# Altium schematic symbol library Pd's Sch Lib.SchLib: 116 symbols (part 1 of 2)
Pins are listed as number, name and electrical type; pins without a type are passive.

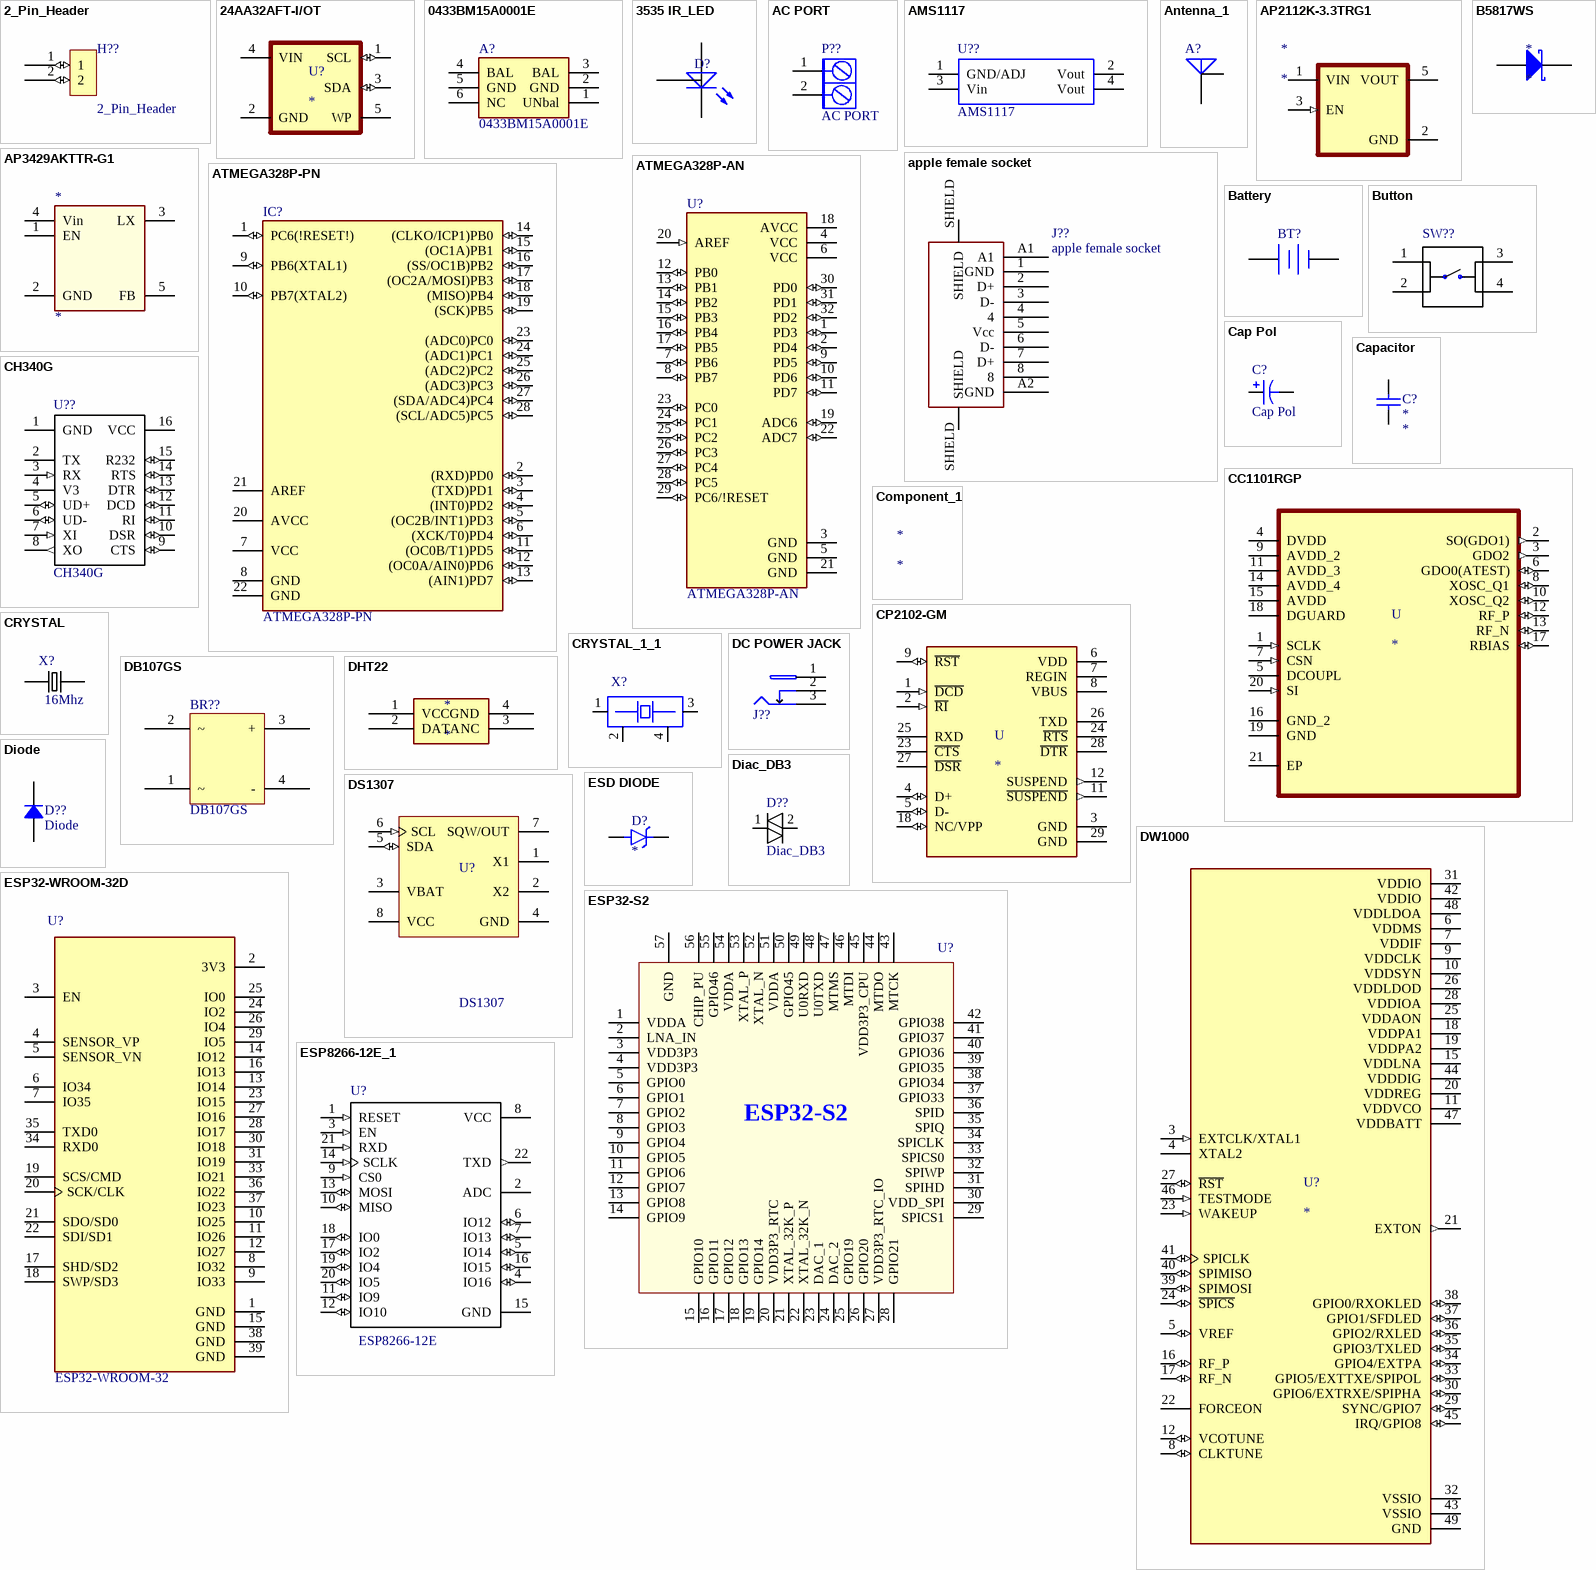
[diagram p0: symbols 2_Pin_Header to ESP8266-12E_1]

## 2_Pin_Header
designator H??
footprint 2 pin Header 2.54mm
pins: 1 (io), 2 (io)

## 24AA32AFT-I/OT
designator U?
pins: 1 SCL (io), 2 GND (power), 3 SDA (io), 4 VIN (power), 5 WP (oe)

## 0433BM15A0001E
designator A?
BALUN, 433MHZ, IMPEDANCE MATCHED; Balun Mounting:SMD; Frequency Min:430MHz; Frequency Max:435MHz; Impedance - Unbalanced / Balanced:-; Insertion Loss:1.9dB; Balun Case Style:0805; Phase Difference:-; Product Range:-; Manufacturer 1: Johanson; Bandwidth: 5MHz; Impedance: 50R; Insertion Loss: 1.9dB; Return Loss: 9.5dB; Value: 435MHz; Supplier 1: Mouser; Supplier Part Number 1: 609-0433BM15A0001E; Manufacturer Part Number: 0433BM15A0001E; RoHS: Yes; Category: Uncategorized; Stock 1: 2504; Pricing 1: 1=0.89000, 50=0.72700, 100=0.59400, 500=0.56400, 1000=0.50400, 4000=0.37000 (USD); Mount: Surface Mount; Package: SMD; Case Code (Metric): 2012; Case Code (Imperial): 0805; Min Operating Temperature: -40°C; Max Operating Temperature: 85°C; Package Quantity: 1; Frequency: 433MHz; Packaging: Tape and Reel; Termination: SMD/SMT; Composition: Ceramic; Length: 0.079inch; Height: 0.031inch; Width: 0.049inch; REACH SVHC: Unknown; Lead Free: Lead Free; ComponentLink1URL: https://datasheet.ciiva.com/15275/htmls322-15275600.pdf?src-supplier=Arrow+Europe; ComponentLink1Description: https://datasheet.ciiva.com/15275/htmls322-15275600.pdf?src-supplier=Arrow+Europe; ComponentLink2URL: https://datasheet.ciiva.com/24048/0433bm15a0001-253534-24048238.pdf?src-supplier=Mouser; ComponentLink2Description: https://datasheet.ciiva.com/24048/0433bm15a0001-253534-24048238.pdf?src-supplier=Mouser; ComponentLink3URL: https://datasheet.ciiva.com/1023/swra250a-1023732.pdf?src-supplier=Digi-Key; ComponentLink3Description: https://datasheet.ciiva.com/1023/swra250a-1023732.pdf?src-supplier=Digi-Key; ComponentLink4URL: https://datasheet.ciiva.com/6851/1643108-6851623.pdf?src-supplier=Newark; ComponentLink4Description: https://datasheet.ciiva.com/6851/1643108-6851623.pdf?src-supplier=Newark; ComponentLink5URL: https://datasheet.ciiva.com/7662/1643108-7662567.pdf?src-supplier=Element14; ComponentLink5Description: https://datasheet.ciiva.com/7662/1643108-7662567.pdf?src-supplier=Element14
footprint 0433BM15A0001E (RF Balun Wmic)
pins: 1 UNbal, 2 GND, 3 BAL, 4 BAL, 5 GND, 6 NC

## 3535 IR_LED
designator D?
pins: 0, A, K

## AC PORT
designator P??
Header, 2-Pin; Manufacturer Part Number: Screw Terminal; Value: 2 PIN; Case/Package: 5mm PITCH TH
signal-integrity model Connector
pins: 1 L, 2 N

## AMS1117
designator U??
footprint SOT223_ AMS1117 (SOT223)
pins: 1 GND/ADJ, 2 Vout, 3 Vin, 4 Vout

## Antenna_1
designator A?
PCB Antenna; Published: 24-Mar-1999; LatestRevisionDate: 17-Jul-2002; LatestRevisionNote: Re-released for DXP Platform.; PackageReference: PIN1; Publisher: Altium Limited
footprint PIN1 (Generic Antenna; 1 Lead)
pins: 1 GND, 2 ANT

## AP2112K-3.3TRG1
designator *
IC REG LINEAR 3.3V 600MA SOT25; Manufacturer 1: Diodes; Manufacturer Part Number 1: AP2112K-3.3TRG1; Number of Regulators: 1; Quiescent Current: 55uA; Polarity: Positive; Max Input Voltage: 6V; Min Input Voltage: 2.5V; Accuracy: 1.5%; Dropout Voltage: 250mV; Output Type: Fixed; Supplier 1: Digi-Key; RoHS: Yes; Category: Voltage Regulators - Linear; Stock 1: 65104; Pricing 1: 1=0.47000, 10=0.35500, 25=0.32000, 100=0.17450, 250=0.16872, 500=0.15126, 1000=0.11636 (USD); Mount: Surface Mount; Case/Package: SOT-23-5; Number of Pins: 5; Min Operating Temperature: -40°C; Max Operating Temperature: 85°C; Output Current: 600mA; Max Output Current: 600mA; Output Voltage: 3.3V; Number of Outputs: 1; Package Quantity: 1; Packaging: Tape and Reel; Length: 3.1mm; Height: 1.3mm; Width: 1.7mm; Lead Free: Lead Free; ComponentLink1URL: https://datasheet.ciiva.com/29569/ap2112-29569919.pdf?src-supplier=Digi-Key; ComponentLink1Description: https://datasheet.ciiva.com/29569/ap2112-29569919.pdf?src-supplier=Digi-Key; ComponentLink2URL: https://datasheet.ciiva.com/30016/ap2112-30016792.pdf?src-supplier=Avnet; ComponentLink2Description: https://datasheet.ciiva.com/30016/ap2112-30016792.pdf?src-supplier=Avnet; ComponentLink3URL: https://datasheet.ciiva.com/29569/ap2112-29569917.pdf?src-supplier=Digi-Key; ComponentLink3Description: https://datasheet.ciiva.com/29569/ap2112-29569917.pdf?src-supplier=Digi-Key; ComponentLink4URL: https://datasheet.ciiva.com/29569/ap2112-29569918.pdf?src-supplier=Digi-Key; ComponentLink4Description: https://datasheet.ciiva.com/29569/ap2112-29569918.pdf?src-supplier=Digi-Key
pins: 1 VIN (power), 2 GND (power), 3 EN (in), 5 VOUT (power)

## AP3429AKTTR-G1
designator *
IC REG BUCK ADJ 2A SYNC TSOT25; Manufacturer: Diodes; Manufacturer Part Number: AP3429AKTTR-G1; Number of Outputs: 1; Min Input Voltage: 2.7V; Max Input Voltage: 5.5V; Min Output Voltage: 600mV; Switching Frequency: 1MHz; Synchronous Rectifier: Yes; Output Type: Adjustable; Output Configuration: Positive; Supplier 1: Newark; RoHS: Yes; Category: Voltage Regulators - Switching; Pricing 1: 5=0.53400, 10=0.39800, 25=0.33700, 50=0.27600, 100=0.21500 (USD); Mount: Surface Mount; Case/Package: SOT-23-5; Min Operating Temperature: -40°C; Max Operating Temperature: 85°C; Packaging: Tape and Reel; Max Output Voltage: 5.5V; Output Current: 2A; RoHS Compliant: Yes; ComponentLink1URL: https://www.diodes.com/assets/Datasheets/AP3429.pdf?src-supplier=Digi-Key; ComponentLink1Description: https://www.diodes.com/assets/Datasheets/AP3429.pdf?src-supplier=Digi-Key; Supplier Part Number 1: 76AH4722
pins: 1 EN (power), 2 GND, 3 LX, 4 Vin (power), 5 FB (power)

## apple female socket
designator J??
footprint Apple Female
pins: 1 GND, 2 D+, 3 D-, 4, 5 Vcc, 6 D-, 7 D+, 8, A1, A2 GND, SHIELD, SHIELD

## ATMEGA328P-AN
designator U?
AVR AVRÂ® ATmega Microcontroller IC 8-Bit 20MHz 32KB _16K x 16_ FLASH 32-TQFP _7x7_; MF: Microchip; SnapEDA_Link: https://www.snapeda.com/parts/ATMEGA328P-AN/Microchip/view-part/1227245/?ref=snap; Value: *; MP: ATMEGA328P-AN; Package: TQFP-32 Microchip; Price: None; Availability: Unavailable
footprint QFP80P900X900X120-32N
pins: 1 PD3 (io), 2 PD4 (io), 3 GND (power), 4 VCC (power), 5 GND (power), 6 VCC (power), 7 PB6 (io), 8 PB7 (io), 9 PD5 (io), 10 PD6 (io), 11 PD7 (io), 12 PB0 (io), 13 PB1 (io), 14 PB2 (io), 15 PB3 (io), 16 PB4 (io), 17 PB5 (io), 18 AVCC (power), 19 ADC6 (io), 20 AREF (in), 21 GND (power), 22 ADC7 (io), 23 PC0 (io), 24 PC1 (io), 25 PC2 (io), 26 PC3 (io), 27 PC4 (io), 28 PC5 (io), 29 PC6/!RESET (io), 30 PD0 (io), 31 PD1 (io), 32 PD2 (io)

## ATMEGA328P-PN
designator IC?
AVR AVRÂ® ATmega Microcontroller IC 8-Bit 20MHz 32KB _16K x 16_ FLASH 28-PDIP; MF: Microchip; Availability: Unavailable; SnapEDA_Link: https://www.snapeda.com/parts/ATMEGA328P-PN/Microchip/view-part/396640/?ref=snap; Price: None; Package: PDIP-28 Atmel; MP: ATMEGA328P-PN; Value: *
footprint DIL28
pins: 1 PC6(!RESET!) (io), 2 (RXD)PD0 (io), 3 (TXD)PD1 (io), 4 (INT0)PD2 (io), 5 (OC2B/INT1)PD3 (io), 6 (XCK/T0)PD4 (io), 7 VCC (power), 8 GND (power), 9 PB6(XTAL1) (io), 10 PB7(XTAL2) (io), 11 (OC0B/T1)PD5 (io), 12 (OC0A/AIN0)PD6 (io), 13 (AIN1)PD7 (io), 14 (CLKO/ICP1)PB0 (io), 15 (OC1A)PB1 (io), 16 (SS/OC1B)PB2 (io), 17 (OC2A/MOSI)PB3 (io), 18 (MISO)PB4 (io), 19 (SCK)PB5 (io), 20 AVCC (power), 21 AREF, 22 GND (power), 23 (ADC0)PC0 (io), 24 (ADC1)PC1 (io), 25 (ADC2)PC2 (io), 26 (ADC3)PC3 (io), 27 (SDA/ADC4)PC4 (io), 28 (SCL/ADC5)PC5 (io)

## B5817WS
designator *
20V 1A 450mV @ 1A SOD-323 Schottky Barrier Diodes (SBD) RoHS; Manufacturer Part Number: B5817WS; Case/Package: SOD-323; ComponentLink1URL: https://datasheet.ciiva.com/912/b5817ws-b5819wssod-323-912713.pdf?src-supplier=Digi-Key; ComponentLink1Description: https://datasheet.ciiva.com/912/b5817ws-b5819wssod-323-912713.pdf?src-supplier=Digi-Key; ComponentLink2URL: https://datasheet.ciiva.com/7624/b5817ws-b5819wssod-323-7624698.pdf?src-supplier=Element14; ComponentLink2Description: https://datasheet.ciiva.com/7624/b5817ws-b5819wssod-323-7624698.pdf?src-supplier=Element14; ComponentLink3URL: https://datasheet.ciiva.com/912/b5817ws-b5819wssod-323-912711.pdf?src-supplier=Digi-Key; ComponentLink3Description: https://datasheet.ciiva.com/912/b5817ws-b5819wssod-323-912711.pdf?src-supplier=Digi-Key; ComponentLink4URL: https://datasheet.ciiva.com/912/b5817ws-b5819wssod-323-912712.pdf?src-supplier=Digi-Key; ComponentLink4Description: https://datasheet.ciiva.com/912/b5817ws-b5819wssod-323-912712.pdf?src-supplier=Digi-Key; ComponentLink5URL: https://datasheet.ciiva.com/17182/b5817ws-b5819wssod-323-17182367.pdf?src-supplier=Future+Electronics; ComponentLink5Description: https://datasheet.ciiva.com/17182/b5817ws-b5819wssod-323-17182367.pdf?src-supplier=Future+Electronics
footprint SOD-323
pins: A, K

## Battery
designator BT?
Multicell Battery; Published: 24-Mar-1999; LatestRevisionDate: 17-Jul-2002; LatestRevisionNote: Re-released for DXP Platform.; PackageReference: BAT-2; Publisher: Altium Limited; PackageDescription: Battery; 2 Leads
footprint BAT-2 (Battery; 2 Leads)
pins: 1 +, 2 -

## Button
designator SW??, comment Switch  (value not drawn)
pins: 1, 2, 3, 4

## Cap Pol
designator C?
Case/Package: *; Manufacturer Part Number: *; Value: *
simulation model CAP (Capacitor)
signal-integrity model Cap Pol
pins: 1, 2
1 alternate drawing of the same symbol

## Capacitor
designator C?
Manufacturer Part Number: *; Case/Package: *; Value: *
pins: 1, 2

## CC1101RGP
designator U
IC RF TxRx Only General ISM < 1GHz 300MHz ~ 348MHz, 387MHz ~ 464MHz, 779MHz ~ 928MHz 20-VFQFN Exposed Pad; MP: CC1101RGP; MF: Texas Instruments; Price: None; Package: QFN-20 Texas Instruments; Value: *; Availability: Unavailable; SnapEDA_Link: https://www.snapeda.com/parts/CC1101RGP/Texas%20Instruments/view-part/53202/?ref=snap
footprint QFN50P400X400X90-21N
pins: 1 SCLK (in), 2 SO(GDO1) (out), 3 GDO2 (out), 4 DVDD (power), 5 DCOUPL (power), 6 GDO0(ATEST) (io), 7 CSN (in), 8 XOSC_Q1 (io), 9 AVDD_2 (power), 10 XOSC_Q2 (io), 11 AVDD_3 (power), 12 RF_P (io), 13 RF_N (io), 14 AVDD_4 (power), 15 AVDD (power), 16 GND_2, 17 RBIAS (io), 18 DGUARD (power), 19 GND, 20 SI (in), 21 EP

## CH340G
designator U??
footprint SO-16
pins: 1 GND (power), 2 TX, 3 RX (in), 4 V3 (power), 5 UD+ (io), 6 UD- (io), 7 XI (in), 8 XO (out), 9 CTS (io), 10 DSR (io), 11 RI (io), 12 DCD (io), 13 DTR (io), 14 RTS (io), 15 R232 (io), 16 VCC (power)

## Component_1
designator *

## CP2102-GM
designator U
CP2102-GM; Manufacturer 1: Silicon Labs; Nominal Supply Current: 26mA; Number of Channels: 1; Data Rate: 1Mbps; Max Supply Voltage: 3.6V; Min Supply Voltage: 3V; Operating Supply Current: 20mA; Operating Supply Voltage: 3.3V; USB Standard: USB 2.0; Supplier 1: Digi-Key; Manufacturer Part Number 1: CP2102-GM; RoHS: Yes; Category: Interface ICs; Stock 1: 9063; Pricing 1: 1=3.17000, 25=3.05560, 100=2.95000, 1000=2.95000 (USD); Case/Package: QFN; Number of Pins: 28; Weight: 0.00239oz; Contact Plating: Tin; Min Operating Temperature: -40°C; Max Operating Temperature: 85°C; Packaging: Rail/Tube; Number of Ports: 1; Number of Transceivers: 1; Length: 5mm; Height: 0.88mm; Width: 5mm; Radiation Hardening: No; Lead Free: Lead Free; REACH SVHC: Unknown; ComponentLink1URL: https://datasheet.ciiva.com/4783/cp2102-42497-4783232.pdf?src-supplier=Mouser; ComponentLink1Description: https://datasheet.ciiva.com/4783/cp2102-42497-4783232.pdf?src-supplier=Mouser; ComponentLink2URL: https://datasheet.ciiva.com/1157/70863-1157174.pdf?src-supplier=Newark; ComponentLink2Description: https://datasheet.ciiva.com/1157/70863-1157174.pdf?src-supplier=Newark; ComponentLink3URL: https://datasheet.ciiva.com/1148/1694195-1148857.pdf?src-supplier=Element14; ComponentLink3Description: https://datasheet.ciiva.com/1148/1694195-1148857.pdf?src-supplier=Element14; ComponentLink4URL: https://datasheet.ciiva.com/16995/0900766b8065a805-16995773.pdf?src-supplier=Allied+Electronics; ComponentLink4Description: https://datasheet.ciiva.com/16995/0900766b8065a805-16995773.pdf?src-supplier=Allied+Electronics; ComponentLink5URL: https://datasheet.ciiva.com/15134/getdatasheetpartid-257645-15134607.pdf?src-supplier=Verical; ComponentLink5Description: https://datasheet.ciiva.com/15134/getdatasheetpartid-257645-15134607.pdf?src-supplier=Verical; ComponentLink6URL: https://datasheet.ciiva.com/6636/cp2102-9-6636573.pdf?src-supplier=Digi-Key; ComponentLink6Description: https://datasheet.ciiva.com/6636/cp2102-9-6636573.pdf?src-supplier=Digi-Key; Supplier Part Number 1: 336-1160-5-ND
footprint QFN50P500X500X100-29N
pins: 1 ~{DCD} (in), 2 ~{RI} (in), 3 GND (power), 4 D+ (io), 5 D- (io), 6 VDD (power), 7 REGIN (power), 8 VBUS (power), 9 ~{RST} (io), 11 ~{SUSPEND} (out), 12 SUSPEND (out), 18 NC/VPP (io), 23 ~{CTS}, 24 ~{RTS}, 25 RXD, 26 TXD, 27 ~{DSR}, 28 ~{DTR}, 29 GND (power)

## CRYSTAL
designator X?, comment 16Mhz
pins: 1, 2

## CRYSTAL_1_1
designator X?, comment CRYSTAL_1  (value not drawn)
pins: 1, 2, 3, 4

## DB107GS
designator BR??
footprint DB-S  DB107
pins: 1 ~, 2 ~, 3 +, 4 -

## DC POWER JACK
designator J??  (value not drawn)
CONN PWR JACK 2.1X5.5MM SOLDER; Manufacturer: Wurth Electronics; Manufacturer Part Number: 694106301002; Gender: Male; Shielding: Unshielded; Current Rating: 5A; Voltage Rating: 24V; Insulation Resistance: 100MR; Voltage Rating (DC): 20V; Connector Type: Jack Power; Supplier 1: Digi-Key; Stock 1: 3331; Pricing 1: 1=0.96, 10=0.908, 50=0.811, 100=0.746, 500=0.648, 1000=0.551 (USD); Mount: Through Hole; Contact Plating: Tin; Color: Black; Contact Material: Copper Alloy; Housing Material: Polyamide; Min Operating Temperature: -40°C; Max Operating Temperature: 85°C; Packaging: Bulk; Termination: Through Hole; Contact Gender: Female; Package Quantity: 500; REACH SVHC: Unknown; Flammability Rating: UL94 V-0; ComponentLink1URL: https://katalog.we-online.de/em/datasheet/6941xx301002.pdf?src-supplier=Digi-Key; ComponentLink1Description: https://katalog.we-online.de/em/datasheet/6941xx301002.pdf?src-supplier=Digi-Key; ComponentLink2URL: http://www.farnell.com/cad/2130967.pdf?src-supplier=Element14; ComponentLink2Description: http://www.farnell.com/cad/2130967.pdf?src-supplier=Element14; ComponentLink3URL: http://www.mouser.com/ds/2/445/6941xx301002-469315.pdf?src-supplier=Mouser; ComponentLink3Description: http://www.mouser.com/ds/2/445/6941xx301002-469315.pdf?src-supplier=Mouser; Supplier Part Number 1: 732-5930-ND
footprint DC PWR JACK (2.5 mm DC female jack)
pins: 1, 2, 3

## DHT22
designator *
pins: 1 VCC, 2 DATA, 3 NC, 4 GND

## Diac_DB3
designator D??
pins: 1, 2

## Diode
designator D??
pins: A, K

## DS1307
designator U?
64 x 8, Serial, I2C Real-Time Clock, 5.0V, 8-Pin PDIP, 0 to 70 degC; Part No: DS1307Z+; Company Name: VEGG; Engineer: Nirmal; ComponentLink1Description: Datasheet; ComponentLink1URL: https://datasheets.maximintegrated.com/en/ds/DS1307.pdf; Package Type: SO8-150
footprint P8-2 (DIP, 8-Leads, Row Spacing 7.62mm, Pitch 2.54mm, Body 9.4x7mm)
footprint W8+2_L
footprint SO8-150
pins: 1 X1, 2 X2, 3 VBAT (power), 4 GND (power), 5 SDA (io), 6 SCL (in), 7 SQW/OUT (oc), 8 VCC (power)

## DW1000
designator U?
IC RF TxRx Only 802.15.4 IR-UWB 3.5GHz ~ 6.5GHz 48-VFQFN Exposed Pad; Manufacturer 1: DecaWave; Manufacturer Part Number: DW1000; MP: DW1000-I; MF: Decawave Limited; Description 1: IC RF TXRX 802.15.4 48-QFN; Category 1: RF Receivers, Transceivers; Data Rate: 6.8Mbps; Current - Receiving: 64mA; Current - Transmitting: 31mA; Interface: SPI; Availability: Unavailable; Package: QFN-48 Decawave; SnapEDA_Link: https://www.snapeda.com/parts/DW1000-I/Decawave%20Limited/view-part/553070/?ref=snap; Price: None; Value: *; Supplier 1: Digi-Key; RoHS 1: Yes; Stock 1: 67437; Pricing 1: 1=10.92000, 10=10.01000, 25=9.10000, 100=8.19000, 250=7.50752, 500=6.82500, 1000=6.14250 (USD); Case/Package: QFN-48 6 x 6mm; Min Operating Temperature: -40°C; Max Operating Temperature: 85°C; Packaging: Tape and Reel; Frequency: 6.5GHz; Package Quantity: 4000; ComponentLink1URL: https://datasheet.ciiva.com/29856/dw1000-product-brief-29856444.pdf?src-supplier=Digi-Key; ComponentLink1Description: https://datasheet.ciiva.com/29856/dw1000-product-brief-29856444.pdf?src-supplier=Digi-Key; ComponentLink2URL: https://datasheet.ciiva.com/29856/dw1000-product-brief-29856445.pdf?src-supplier=Digi-Key; ComponentLink2Description: https://datasheet.ciiva.com/29856/dw1000-product-brief-29856445.pdf?src-supplier=Digi-Key; ComponentLink3URL: https://datasheet.ciiva.com/29856/dw1000-product-brief-29856446.pdf?src-supplier=Digi-Key; ComponentLink3Description: https://datasheet.ciiva.com/29856/dw1000-product-brief-29856446.pdf?src-supplier=Digi-Key; Supplier Part Number 1: 1479-1001-1-ND
footprint QFN40P600X600X90-49N
pins: 3 EXTCLK/XTAL1 (in), 4 XTAL2, 5 VREF (io), 6 VDDMS (power), 7 VDDIF (power), 8 CLKTUNE (io), 9 VDDCLK (power), 10 VDDSYN (power), 11 VDDVCO (power), 12 VCOTUNE (io), 15 VDDLNA (power), 16 RF_P (io), 17 RF_N (io), 18 VDDPA1 (power), 19 VDDPA2 (power), 20 VDDREG (power), 21 EXTON (out), 22 FORCEON (power), 23 WAKEUP (in), 24 ~{SPICS} (io), 25 VDDAON (power), 26 VDDLDOD (power), 27 ~{RST} (io), 28 VDDIOA (power), 29 SYNC/GPIO7 (io), 30 GPIO6/EXTRXE/SPIPHA (io), 31 VDDIO (power), 32 VSSIO (power), 33 GPIO5/EXTTXE/SPIPOL (io), 34 GPIO4/EXTPA (io), 35 GPIO3/TXLED (io), 36 GPIO2/RXLED (io), 37 GPIO1/SFDLED (io), 38 GPIO0/RXOKLED (io), 39 SPIMOSI (io), 40 SPIMISO (io), 41 SPICLK (io), 42 VDDIO (power), 43 VSSIO (power), 44 VDDDIG (power), 45 IRQ/GPIO8 (io), 46 TESTMODE (in), 47 VDDBATT (power), 48 VDDLDOA (power), 49 GND (power)

## ESD DIODE
designator D?
pins: A, K

## ESP32-S2
designator U?  (value not drawn)
QFN-56 RF Transceiver ICs RoHS; Manufacturer 1: Espressif Systems; Manufacturer Part Number 1: ESP32-S2; Case/Package: QFN-56
footprint QFN56-7x7mm
pins: 1 VDDA, 2 LNA_IN, 3 VDD3P3, 4 VDD3P3, 5 GPIO0, 6 GPIO1, 7 GPIO2, 8 GPIO3, 9 GPIO4, 10 GPIO5, 11 GPIO6, 12 GPIO7, 13 GPIO8, 14 GPIO9, 15 GPIO10, 16 GPIO11, 17 GPIO12, 18 GPIO13, 19 GPIO14, 20 VDD3P3_RTC, 21 XTAL_32K_P, 22 XTAL_32K_N, 23 DAC_1, 24 DAC_2, 25 GPIO19, 26 GPIO20, 27 VDD3P3_RTC_IO, 28 GPIO21, 29 SPICS1, 30 VDD_SPI, 31 SPIHD, 32 SPIWP, 33 SPICS0, 34 SPICLK, 35 SPIQ, 36 SPID, 37 GPIO33, 38 GPIO34, 39 GPIO35, 40 GPIO36, 41 GPIO37, 42 GPIO38, 43 MTCK, 44 MTDO, 45 VDD3P3_CPU, 46 MTDI, 47 MTMS, 48 U0TXD, 49 U0RXD, 50 GPIO45, 51 VDDA, 52 XTAL_N, 53 XTAL_P, 54 VDDA, 55 GPIO46, 56 CHIP_PU, 57 GND

## ESP32-WROOM-32D
designator U?  Manufacturer Part Number: ESP32-WROOM-32  (hidden comment: *)
SMD MODULE, ESP32-D0WDQ6, 32MBIT; Manufacturer 1: Espressif Systems; Frequency: 2.5GHz; Data Rate: 150Mbps; Sensitivity: -98dBm; Operating Supply Voltage: 3.6V; Supplier 1: Digi-Key; RoHS: No; Category: RF Receivers, Transceivers; Pricing 1: 1=3.80000 (USD); Mount: Surface Mount; Case/Package: SMD/SMT; Weight: 0.088185oz; Min Operating Temperature: -40°C; Max Operating Temperature: 85°C; Packaging: Cut Tape; Package Quantity: 550; ComponentLink1URL: https://datasheet.ciiva.com/70828/esp32-wroom-32-datasheet-en-70828769.pdf?src-supplier=Digi-Key; ComponentLink1Description: https://datasheet.ciiva.com/70828/esp32-wroom-32-datasheet-en-70828769.pdf?src-supplier=Digi-Key; ComponentLink2URL: https://datasheet.ciiva.com/69725/esp32-datasheet-en-69725253.pdf?src-supplier=Digi-Key; ComponentLink2Description: https://datasheet.ciiva.com/69725/esp32-datasheet-en-69725253.pdf?src-supplier=Digi-Key; Supplier Part Number 1: 1904-1010-1-ND
footprint ESP32-WROOM-3D
pins: 1 GND, 2 3V3, 3 EN, 4 SENSOR_VP, 5 SENSOR_VN, 6 IO34, 7 IO35, 8 IO32, 9 IO33, 10 IO25, 11 IO26, 12 IO27, 13 IO14, 14 IO12, 15 GND, 16 IO13, 17 SHD/SD2, 18 SWP/SD3, 19 SCS/CMD, 20 SCK/CLK, 21 SDO/SD0, 22 SDI/SD1, 23 IO15, 24 IO2, 25 IO0, 26 IO4, 27 IO16, 28 IO17, 29 IO5, 30 IO18, 31 IO19, 33 IO21, 34 RXD0, 35 TXD0, 36 IO22, 37 IO23, 38 GND, 39 GND

## ESP8266-12E_1
designator U?, comment ESP8266-12E
ESP-12E; Company Name: VEGG; Engineer: Nirmal; Package Type: SMT; ComponentLink1Description: Datasheet; ComponentLink1URL: https://www.espressif.com/sites/default/files/documentation/0a-esp8266ex_datasheet_en.pdf; Part No: ESP-12E
footprint ESP-12E
pins: 1 RESET (in), 2 ADC, 3 EN (in), 4 IO16 (io), 5 IO14 (io), 6 IO12 (io), 7 IO13 (io), 8 VCC (power), 9 CS0 (in), 10 MISO (io), 11 IO9 (io), 12 IO10 (io), 13 MOSI (io), 14 SCLK (in), 15 GND (power), 16 IO15 (io), 17 IO2 (io), 18 IO0 (io), 19 IO4 (io), 20 IO5 (io), 21 RXD (in), 22 TXD (out)

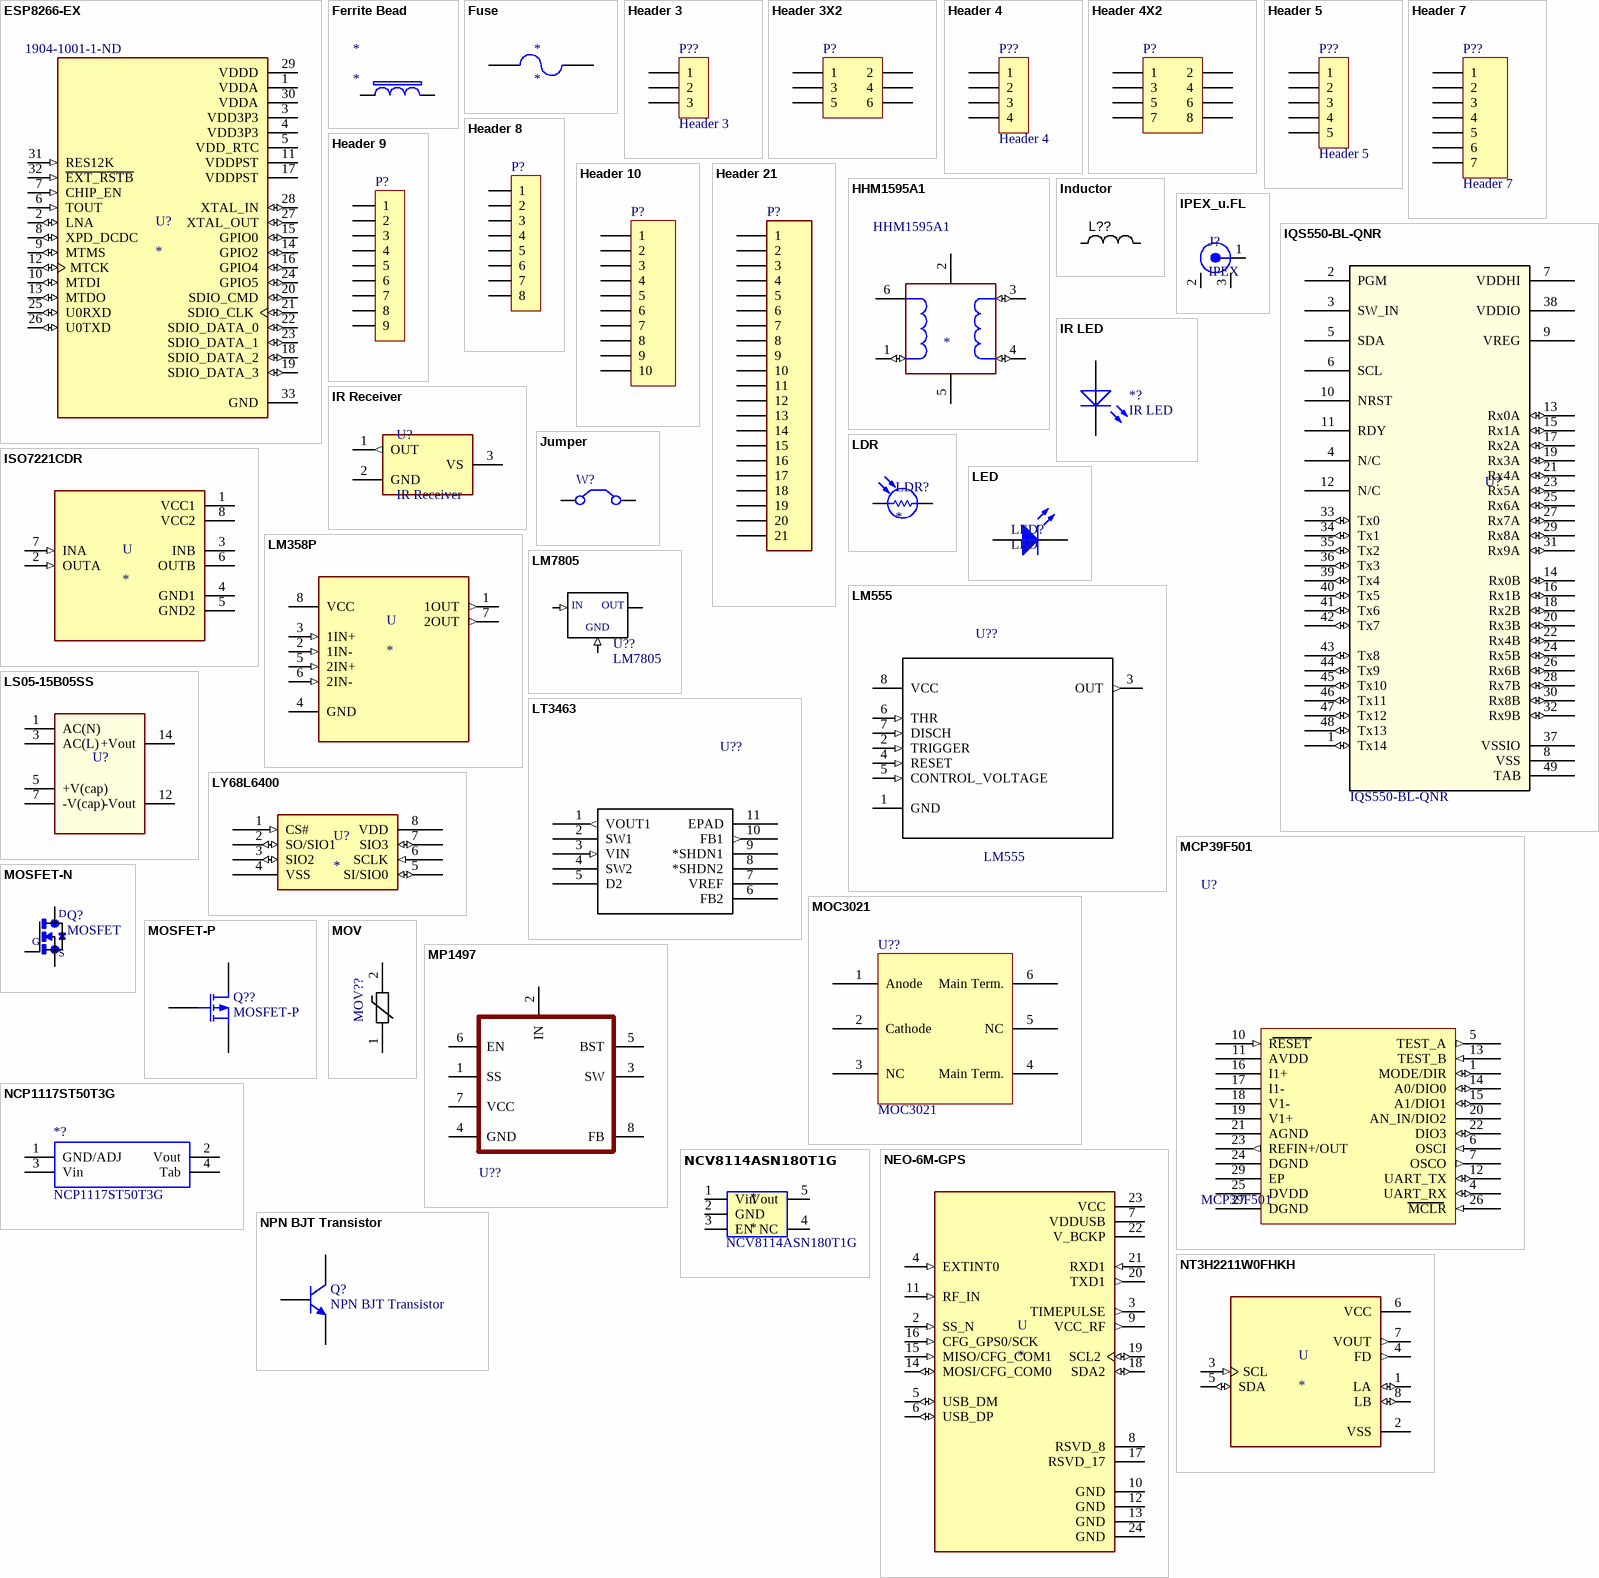
[diagram p1: symbols ESP8266-EX to NT3H2211W0FHKH]

## ESP8266-EX
designator U?  Supplier Part Number 1: 1904-1001-1-ND
IC ESP8266, SDIO 2.0, SPI, UART, QFN32, RF switch, balun, 24dBm PA, DCXO, PMU/Espresiff; Manufacturer 1: Espressif Systems; Manufacturer Part Number: ESP8266EX; Frequency: 2.4GHz; Data Rate: 54Mbps; Sensitivity: -91dBm; Current - Transmitting: 170mA; Interface: I2C,SPI,UART; Number of GPIO: 8; Current - Receiving: 56mA; Supplier 1: Digi-Key; RoHS: No; Category: RF Receivers, Transceivers; Stock 1: 3734; Pricing 1: 1=1.60000 (USD); Packaging: Cut Tape; ComponentLink1URL: https://datasheet.ciiva.com/70029/esp8266-quick-start-guide-en-70029745.pdf?src-supplier=Digi-Key; ComponentLink1Description: https://datasheet.ciiva.com/70029/esp8266-quick-start-guide-en-70029745.pdf?src-supplier=Digi-Key
footprint QFN-32 (esp8266-ex)
pins: 1 VDDA (power), 2 LNA (io), 3 VDD3P3 (power), 4 VDD3P3 (power), 5 VDD_RTC (power), 6 TOUT (in), 7 CHIP_EN (in), 8 XPD_DCDC (io), 9 MTMS (io), 10 MTDI (io), 11 VDDPST (power), 12 MTCK (io), 13 MTDO (io), 14 GPIO2 (io), 15 GPIO0 (io), 16 GPIO4 (io), 17 VDDPST (power), 18 SDIO_DATA_2 (io), 19 SDIO_DATA_3 (io), 20 SDIO_CMD (io), 21 SDIO_CLK (io), 22 SDIO_DATA_0 (io), 23 SDIO_DATA_1 (io), 24 GPIO5 (io), 25 U0RXD (io), 26 U0TXD (io), 27 XTAL_OUT (io), 28 XTAL_IN (io), 29 VDDD (power), 30 VDDA (power), 31 RES12K (in), 32 ~{EXT_RSTB} (in), 33 GND (power)

## Ferrite Bead
designator *
pins: 1, 2

## Fuse
designator *
pins: 1, 2

## Header 3
designator P??
Header, 3-Pin; LatestRevisionDate: 17-Jul-2002; LatestRevisionNote: Re-released for DXP Platform.; Publisher: Altium Limited
signal-integrity model Connector
footprint HDR1X3 2.54 (Connector; Header; 3 Position)
pins: 1, 2, 3

## Header 3X2
designator P?
Header, 3-Pin, Dual row; LatestRevisionDate: 17-Jul-2002; LatestRevisionNote: Re-released for DXP Platform.; Publisher: Altium Limited
footprint HDR2X3 (Connector; Header; 3x2 Position)
signal-integrity model Connector
footprint MHDR2X3 (Connector; Header; 3x2 Position)
pins: 1, 2, 3, 4, 5, 6

## Header 4
designator P??
Header, 4-Pin; LatestRevisionDate: 17-Jul-2002; LatestRevisionNote: Re-released for DXP Platform.; Publisher: Altium Limited
signal-integrity model Connector
pins: 1, 2, 3, 4

## Header 4X2
designator P?
Header, 4-Pin, Dual row; LatestRevisionDate: 17-Jul-2002; LatestRevisionNote: Re-released for DXP Platform.; Publisher: Altium Limited
footprint HDR2X4 (Connector; Header; 4x2 Position)
signal-integrity model Connector
pins: 1, 2, 3, 4, 5, 6, 7, 8

## Header 5
designator P??
Header, 5-Pin; LatestRevisionDate: 17-Jul-2002; LatestRevisionNote: Re-released for DXP Platform.; Publisher: Altium Limited
signal-integrity model Connector
pins: 1, 2, 3, 4, 5

## Header 7
designator P??
Header, 7-Pin; LatestRevisionDate: 17-Jul-2002; LatestRevisionNote: Re-released for DXP Platform.; Publisher: Altium Limited
signal-integrity model Connector
pins: 1, 2, 3, 4, 5, 6, 7

## Header 8
designator P?
Header, 8-Pin; LatestRevisionDate: 17-Jul-2002; LatestRevisionNote: Re-released for DXP Platform.; Publisher: Altium Limited
footprint HDR1X8 (Connector; Header; 8 Position)
signal-integrity model Connector
pins: 1, 2, 3, 4, 5, 6, 7, 8

## Header 9
designator P?
Header, 9-Pin; LatestRevisionDate: 17-Jul-2002; LatestRevisionNote: Re-released for DXP Platform.; Publisher: Altium Limited
footprint HDR1X9 (Connector; Header; 9 Position)
signal-integrity model Connector
pins: 1, 2, 3, 4, 5, 6, 7, 8, 9

## Header 10
designator P?
Header, 10-Pin; LatestRevisionDate: 17-Jul-2002; LatestRevisionNote: Re-released for DXP Platform.; Publisher: Altium Limited
footprint HDR1X10 (Connector; Header; 10 Position)
signal-integrity model Connector
pins: 1, 2, 3, 4, 5, 6, 7, 8, 9, 10

## Header 21
designator P?
Header, 22-Pin; LatestRevisionDate: 17-Jul-2002; LatestRevisionNote: Re-released for DXP Platform.; Publisher: Altium Limited
signal-integrity model Connector
footprint HDR1X21 (Connector; Header; 21 Position)
pins: 1, 2, 3, 4, 5, 6, 7, 8, 9, 10, 11, 12, 13, 14, 15, 16, 17, 18, 19, 20, 21

## HHM1595A1
designator BALUN  Manufacturer Part Number: HHM1595A1
50Ω 100Ω 3GHz ~ 8GHz 1.5dB 8dB 180±20 deg 0805 Balun RoHS; Manufacturer 1: TDK; Category 1: Uncategorized; Impedance: 100R; Supplier 1: LCSC; RoHS 1: Yes; Description 1: Balun; Stock 1: 40; Pricing 1: 1=0.22110, 10=0.16280, 30=0.15210, 100=0.14150, 500=0.13670, 1000=0.13440, 1=0.21290, 10=0.15680, 30=0.14650, 100=0.13620, 500=0.13170, 1000=0.12940, 1=1.09280, 10=0.80490, 30=0.75200, 100=0.69910, 500=0.67570, 1000=0.66410, 1=1.01380, 10=0.74670, 30=0.69770, 100=0.64860, 500=0.62690, 1000=0.61610, 1=0.13630, 10=0.10040, 30=0.09380, 100=0.08720, 500=0.08420, 1000=0.08280, 1=0.12470, 10=0.09190, 30=0.08580, 100=0.07980, 500=0.07710, 1000=0.07580, 1=1.25220, 10=0.92230, 30=0.86170, 100=0.80110, 500=0.77420, 1000=0.76090, 1=16.86940, 10=12.42490, 30=11.60870, 100=10.79270, 500=10.43070, 1000=10.25140, 1=0.66430, 10=0.48930, 30=0.45710, 100=0.42500, 500=0.41070, 1000=0.40370, 1=12.20920, 10=8.99250, 30=8.40180, 100=7.81120, 500=7.54920, 1000=7.41940, 1=1.41370, 10=1.04130, 30=0.97290, 100=0.90450, 500=0.87410, 1000=0.85910, 1=0.21920, 10=0.16150, 30=0.15090, 100=0.14030, 500=0.13560, 1000=0.13320, 1=0.16157, 10=0.11900, 30=0.11118, 100=0.10337, 500=0.09990, 1000=0.09818 (AUD); Mount: Surface Mount; Case/Package: 0805; Number of Pins: 6; Case Code (Metric): 2012; Case Code (Imperial): 0805; Min Operating Temperature: -40°C; Max Operating Temperature: 85°C; Package Quantity: 1; Packaging: Tape and Reel; Insertion Loss: 1.5dB; Termination: SMD/SMT; Radiation Hardening: No; ComponentLink1URL: https://datasheet.ciiva.com/30013/rf-balun-hhm1595a1-en-30013313.pdf?src-supplier=Avnet; ComponentLink1Description: https://datasheet.ciiva.com/30013/rf-balun-hhm1595a1-en-30013313.pdf?src-supplier=Avnet; ComponentLink2URL: https://datasheet.ciiva.com/4547/e751-multibalun-hhm18-20070-4547862.pdf?src-supplier=Mouser; ComponentLink2Description: https://datasheet.ciiva.com/4547/e751-multibalun-hhm18-20070-4547862.pdf?src-supplier=Mouser; ComponentLink3URL: https://datasheet.ciiva.com/2788/rf-balun-hhm1583b1-en-2788708.pdf?src-supplier=Digi-Key; ComponentLink3Description: https://datasheet.ciiva.com/2788/rf-balun-hhm1583b1-en-2788708.pdf?src-supplier=Digi-Key; ComponentLink4URL: https://datasheet.ciiva.com/2788/rf-balun-hhm1583b1-en-2788709.pdf?src-supplier=Digi-Key; ComponentLink4Description: https://datasheet.ciiva.com/2788/rf-balun-hhm1583b1-en-2788709.pdf?src-supplier=Digi-Key; ComponentLink5URL: https://datasheet.ciiva.com/2788/rf-balun-hhm1583b1-en-2788710.pdf?src-supplier=Digi-Key; ComponentLink5Description: https://datasheet.ciiva.com/2788/rf-balun-hhm1583b1-en-2788710.pdf?src-supplier=Digi-Key; Supplier Part Number 1: C112665
pins: 1 Unbalanced port (io), 2 GND (power), 3 Balanced port (io), 4 Balanced port (io), 5 GND (power), 6 N.C.

## Inductor
designator L??  (value not drawn)
Inductor vertical mount
pins: 1, 2

## IPEX_u.FL
designator J?, comment IPEX
footprint u.FL_ESP
pins: 1 RF, 2 GND1, 3 GND2

## IQS550-BL-QNR
designator U?
150CH. Trackpad/touch Screen Con; Manufacturer: Azoteq; Supplier 1: Digi-Key; RoHS: No; Stock 1: 3541; Pricing 1: 1=3.09000, 5=2.86600, 10=2.38100, 25=1.98440, 50=1.76400, 100=1.67580, 500=1.41120, 1000=1.32300 (USD); ComponentLink1URL: http://www.mouser.com/ds/2/42/iqs5xx-b000_trackpad_datasheet-769917.pdf?src-supplier=Mouser; ComponentLink1Description: http://www.mouser.com/ds/2/42/iqs5xx-b000_trackpad_datasheet-769917.pdf?src-supplier=Mouser; Supplier Part Number 1: 1790-1046-1-ND; Manufacturer Part Number: IQS550-BL-QNR
footprint QFN_IQS550_AZQ
pins: 1 Tx14 (io), 2 PGM, 3 SW_IN, 4 N/C, 5 SDA, 6 SCL, 7 VDDHI (power), 8 VSS, 9 VREG, 10 NRST, 11 RDY, 12 N/C, 13 Rx0A (io), 14 Rx0B (io), 15 Rx1A (io), 16 Rx1B (io), 17 Rx2A (io), 18 Rx2B (io), 19 Rx3A (io), 20 Rx3B (io), 21 Rx4A (io), 22 Rx4B (io), 23 Rx5A (io), 24 Rx5B (io), 25 Rx6A (io), 26 Rx6B (io), 27 Rx7A (io), 28 Rx7B (io), 29 Rx8A (io), 30 Rx8B (io), 31 Rx9A (io), 32 Rx9B (io), 33 Tx0 (io), 34 Tx1 (io), 35 Tx2 (io), 36 Tx3 (io), 37 VSSIO, 38 VDDIO (power), 39 Tx4 (io), 40 Tx5 (io), 41 Tx6 (io), 42 Tx7 (io), 43 Tx8 (io), 44 Tx9 (io), 45 Tx10 (io), 46 Tx11 (io), 47 Tx12 (io), 48 Tx13 (io), 49 TAB

## IR LED
designator *?
pins: A, K

## IR Receiver
designator U?
footprint IR Receiver
pins: 1 OUT (out), 2 GND, 3 VS

## ISO7221CDR
designator U
TEXAS INSTRUMENTS - ISO7221CDR - Digital Isolator, 2 Channel, 405 ns, 2.8 V, 5.5 V, SOIC, 8 Pins; Propagation Delay: 42ns; Min Supply Voltage: 3V; Max Supply Voltage: 5.5V; Nominal Supply Current: 12mA; Number of Channels: 2; Data Rate: 25Mbps; Channel Type: Unidirectional; Isolated Power: No; Pulse Width Distortion (PWD): 2ns; Supplier 1: Digi-Key; Manufacturer 1: Texas Instruments; Manufacturer Part Number 1: ISO7221CDR; RoHS: Yes; Category: Interface ICs; Stock 1: 8580; Pricing 1: 1=2.82000, 10=2.53000, 25=2.39160, 100=1.96660, 250=1.76460, 500=1.70080, 1000=1.41379 (USD); Case/Package: SOIC; Number of Pins: 8; Weight: 0.019048oz; Contact Plating: Gold; Min Operating Temperature: -40°C; Max Operating Temperature: 125°C; Packaging: Tape and Reel; Package Quantity: 1; Type: General Purpose; Polarity: Unidirectional; Operating Supply Current: 12mA; Radiation Hardening: No; Lead Free: Lead Free; REACH SVHC: No SVHC; ComponentLink1URL: https://datasheet.ciiva.com/26911/iso7221cdr-26911413.pdf?src-supplier=IIIC; ComponentLink1Description: https://datasheet.ciiva.com/26911/iso7221cdr-26911413.pdf?src-supplier=IIIC; ComponentLink2URL: https://datasheet.ciiva.com/2081/iso7220a-2081974.pdf?src-supplier=Digi-Key; ComponentLink2Description: https://datasheet.ciiva.com/2081/iso7220a-2081974.pdf?src-supplier=Digi-Key; ComponentLink3URL: https://datasheet.ciiva.com/14196/iso7221m-14196790.pdf?src-supplier=Avnet; ComponentLink3Description: https://datasheet.ciiva.com/14196/iso7221m-14196790.pdf?src-supplier=Avnet; ComponentLink4URL: https://datasheet.ciiva.com/2081/iso7220a-2081975.pdf?src-supplier=Digi-Key; ComponentLink4Description: https://datasheet.ciiva.com/2081/iso7220a-2081975.pdf?src-supplier=Digi-Key; ComponentLink5URL: https://datasheet.ciiva.com/2081/iso7220a-2081976.pdf?src-supplier=Digi-Key; ComponentLink5Description: https://datasheet.ciiva.com/2081/iso7220a-2081976.pdf?src-supplier=Digi-Key; ComponentLink6URL: https://datasheet.ciiva.com/7655/1805905-7655161.pdf?src-supplier=Element14; ComponentLink6Description: https://datasheet.ciiva.com/7655/1805905-7655161.pdf?src-supplier=Element14; ComponentLink7URL: https://datasheet.ciiva.com/26932/getdatasheetpartid-311926-26932683.pdf?src-supplier=Verical; ComponentLink7Description: https://datasheet.ciiva.com/26932/getdatasheetpartid-311926-26932683.pdf?src-supplier=Verical
footprint SOIC127P599X175-8N
pins: 1 VCC1 (power), 2 OUTA (in), 3 INB, 4 GND1 (power), 5 GND2 (power), 6 OUTB, 7 INA (in), 8 VCC2 (power)

## Jumper
designator W?
Jumper Wire; Published: 24-Mar-1999; LatestRevisionDate: 17-Jul-2002; LatestRevisionNote: Re-released for DXP Platform.; PackageReference: RAD-0.2; Publisher: Altium Limited; PackageDescription: Radial Cap, Thru-Hole; 2 Leads; 0.2 in Pin Spacing
footprint RAD-0.2 (Radial Cap, Thru-Hole; 2 Leads; 0.2 in Pin Spacing)
pins: 1 C1, 2 C2

## LDR
designator LDR?
pins: 1, 2

## LED
designator LED?
simulation model LED2 (Diode)
pins: A, K

## LM358P
designator U
General Purpose Amplifier 2 Circuit 8-PDIP; MF: Texas Instruments; MP: LM358P; Package: SO-8 Texas Instruments; Value: *; Price: None; Availability: Unavailable; SnapEDA_Link: https://www.snapeda.com/parts/LM358P/Texas%20Instruments/view-part/559457/?ref=snap
footprint DIP254P762X508-8
pins: 1 1OUT (out), 2 1IN- (in), 3 1IN+ (in), 4 GND (power), 5 2IN+ (in), 6 2IN- (in), 7 2OUT (out), 8 VCC (power)

## LM555
designator U??
MF: Texas Instruments; MP: LM555CN; Package: DIP-8 Intersil; Availability: Unavailable; SnapEDA_Link: https://www.snapeda.com/parts/LM555CN/Texas%20Instruments/view-part/?ref=snap; Price: None; Value: *
footprint DIP-8 (DIP; 8 Leads; Row Spacing 7.62 mm; Pitch 2.54 mm)
pins: 1 GND, 2 TRIGGER (in), 3 OUT (out), 4 RESET (in), 5 CONTROL_VOLTAGE (in), 6 THR (in), 7 DISCH (in), 8 VCC (power)

## LM7805
designator U??
MP: L7805; MF: STMicroelectronics; Price: None; SnapEDA_Link: https://www.snapeda.com/parts/L7805/STMicroelectronics/view-part/?ref=snap; Availability: Unavailable; Package: None; Value: *
pins: GND (in), IN (in), OUT

## LS05-15B05SS
designator U?  (value not drawn)
5W, AC/DC converter; Manufacturer Part Number: LS05-15B05SS; Output Voltage: 5V; Output Current: 1A; Output Power: 5W
footprint LS05-15B05SS
pins: 1 AC(N), 3 AC(L), 5 +V(cap), 7 -V(cap), 12 -Vout, 14 +Vout

## LT3463
designator U??, comment LT3463AEDD#TR  (value not drawn)
Boost, Charge Pump Switching Regulator IC Positive and Negative _Dual Rail_ Adjustable Â±1.25V 2 Output 180mA _Switch_, 320mA _Switch_ 10-WFDFN Exposed Pad /; MF: Linear Technology; Availability: Unavailable; Package: None; MP: LT3463AEDD#TR; Price: None; SnapEDA_Link: https://www.snapeda.com/parts/LT3463AEDD%23TR/Analog%20Devices/view-part/1215895/?ref=snap; Value: *
footprint DFN-10_DD
pins: 1 VOUT1 (out), 2 SW1, 3 VIN (in), 4 SW2, 5 D2, 6 FB2, 7 VREF (power), 8 *SHDN2, 9 *SHDN1, 10 FB1 (out), 11 EPAD

## LY68L6400
designator U?
Manufacturer Part Number: LY68L6400SLIT; Case/Package: SOP-8_150mil
footprint SOP-8
pins: 1 CS# (in), 2 SO/SIO1 (io), 3 SIO2 (io), 4 VSS (power), 5 SI/SIO0 (io), 6 SCLK (in), 7 SIO3 (io), 8 VDD (power)

## MCP39F501
designator U?
Power Management Specialised - PMIC Single-Phase Power-Monitoring IC; Package: QFN-28; Mfr. No: MCP39F501; Value: MCP39F501
footprint MCP39F501 (Power Management Specialised - PMIC Single-Phase Power-Monitoring IC)
pins: 1 MODE/DIR (io), 4 UART_RX (io), 5 TEST_A (out), 6 OSCI (in), 7 OSCO (out), 10 RESET (in), 11 AVDD (power), 12 UART_TX (io), 13 TEST_B (in), 14 A0/DIO0 (io), 15 A1/DIO1 (io), 16 I1+ (power), 17 I1-, 18 V1-, 19 V1+, 20 AN_IN/DIO2, 21 AGND (power), 22 DIO3 (io), 23 REFIN+/OUT (out), 24 DGND (power), 25 DVDD, 26 MCLR (in), 27 DGND (power), 29 EP (power)

## MOC3021
designator U??
pins: 1 Anode, 2 Cathode, 3 NC, 4 Main Term., 5 NC, 6 Main Term.

## MOSFET-N
designator Q?, comment MOSFET
footprint MOSFET-SOT23-3
pins: 1 G, 2 S, 3 D

## MOSFET-P
designator Q??
P-Channel MOSFET
simulation model PMOS (MOSFET-P)
pins: 1 G, 2 S, 3 D

## MOV
designator MOV??, comment TMOV20RP300E  (value not drawn)
TMOV%C2%AE Series 517 VDC 300 V RMS 775 V Clamp 10000 A 800 pF Radial Lead Varistor; MF: Littelfuse; Availability: Good; Price: 1.34 USD; Package: Disc-20 Littelfuse; MP: TMOV20RP300E; Value: *
footprint MOV
pins: 1, 2

## MP1497
designator U??  (value not drawn)
footprint TSOT23-8
pins: 1 SS, 2 IN, 3 SW, 4 GND, 5 BST, 6 EN, 7 VCC, 8 FB

## NCP1117ST50T3G
designator *?
footprint SOT223
pins: 1 GND/ADJ, 2 Vout, 3 Vin, 4 Tab

## NCV8114ASN180T1G‎
designator *  Manufacturer Part Number: NCV8114ASN180T1G
Manufacturer 1: ON Semiconductor; Description 1: LDO Regulator Pos 1.8V 0.3A Automotive 5-Pin TSOP T/R; Category 1: Voltage Regulators - Linear; Output Type: Fixed; Output Configuration: Positive; Number of Regulators: 1; Max Input Voltage: 5.5V; Min Output Voltage: 1.8V; Output Current: 300mA; Quiescent Current: 95uA; Power Supply Rejection Ratio (PSRR): 75dB; Supplier 1: Digi-Key; RoHS 1: No; Stock 1: 4791; Pricing 1: 1=0.37000, 10=0.28100, 25=0.25320, 100=0.13800, 250=0.13340, 500=0.11960, 1000=0.09200 (USD); Mount: Surface Mount; Case/Package: SOT-23-5; Min Operating Temperature: -40°C; Max Operating Temperature: 125°C; Packaging: Tape and Reel; ComponentLink1URL: http://www.farnell.com/datasheets/2290242.pdf?src-supplier=Farnell; ComponentLink1Description: http://www.farnell.com/datasheets/2290242.pdf?src-supplier=Farnell; ComponentLink2URL: http://www.onsemi.com/pub/Collateral/NCV8114-D.PDF?src-supplier=Digi-Key; ComponentLink2Description: http://www.onsemi.com/pub/Collateral/NCV8114-D.PDF?src-supplier=Digi-Key; Supplier Part Number 1: NCV8114ASN180T1GOSCT-ND
footprint SOT25
pins: 1 Vin, 2 GND, 3 EN, 4 NC, 5 Vout

## NEO-6M-GPS
designator U
SMD GPS Module;; MP: NEO-6M-GPS; MF: u-blox; Availability: Unavailable; Package: None; SnapEDA_Link: https://www.snapeda.com/parts/NEO-6M-GPS/u-blox/view-part/105879/?ref=snap; Value: *; Price: None
footprint XCVR_NEO-6M-GPS
pins: 2 SS_N (in), 3 TIMEPULSE (out), 4 EXTINT0 (in), 5 USB_DM (io), 6 USB_DP (io), 7 VDDUSB (power), 8 RSVD_8, 9 VCC_RF (out), 10 GND (power), 11 RF_IN (in), 12 GND (power), 13 GND (power), 14 MOSI/CFG_COM0 (io), 15 MISO/CFG_COM1 (in), 16 CFG_GPS0/SCK (in), 17 RSVD_17, 18 SDA2 (io), 19 SCL2 (io), 20 TXD1 (out), 21 RXD1 (in), 22 V_BCKP (power), 23 VCC (power), 24 GND (power)

## NPN BJT Transistor
designator Q?
pins: 1 B, 2 E, 3 C

## NT3H2211W0FHKH
designator U
RFID Transponder IC 13.56MHz ISO 14443 IÂ²C 3.6V 8-XFQFN Exposed Pad; MF: NXP USA; MP: NT3H2211W0FHKH; Value: *; Package: XQFN-8 NXP Semiconductors; Price: None; SnapEDA_Link: https://www.snapeda.com/parts/NT3H2211W0FHKH/NXP%20USA%20Inc./view-part/575216/?ref=snap; Availability: Unavailable
footprint IC_NT3H2211W0FHKH
pins: 1 LA (io), 2 VSS (power), 3 SCL (in), 4 FD (out), 5 SDA (io), 6 VCC (power), 7 VOUT (out), 8 LB (io)

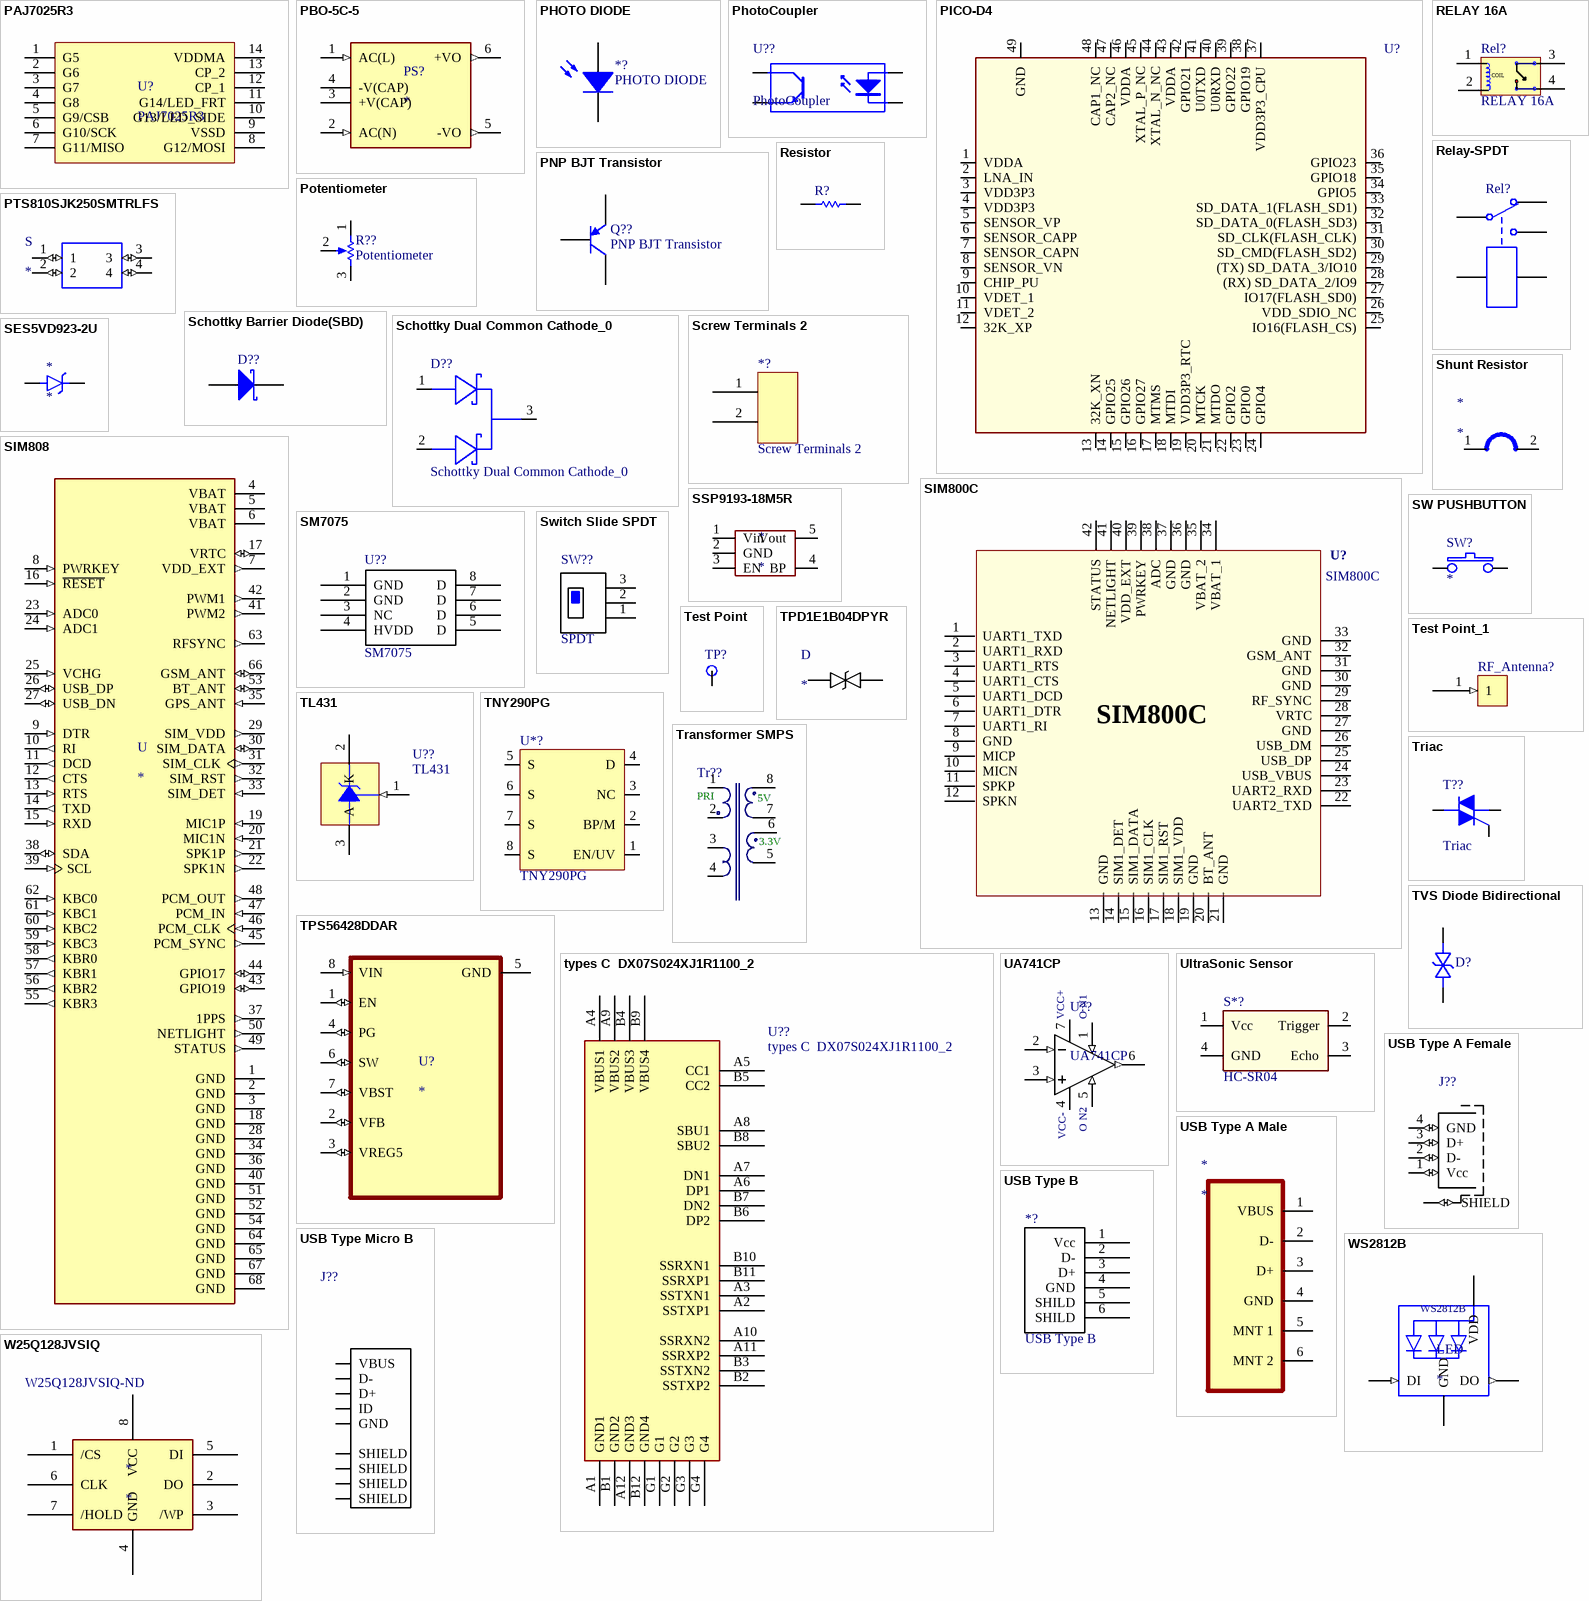
[diagram p2: symbols PAJ7025R3 to WS2812B]

## PAJ7025R3
designator U?
IR Camera
pins: 1 G5, 2 G6, 3 G7, 4 G8, 5 G9/CSB, 6 G10/SCK, 7 G11/MISO, 8 G12/MOSI, 9 VSSD, 10 G13/LED_SIDE, 11 G14/LED_FRT, 12 CP_1, 13 CP_2, 14 VDDMA

## PBO-5C-5
designator PS?
MP: PBO-5C-5; Package: None; Price: None; Value: *; Availability: Unavailable
footprint CONV_PBO-5C-5
pins: 1 AC(L) (in), 2 AC(N) (in), 3 +V(CAP), 4 -V(CAP), 5 -VO (out), 6 +VO (out)

## PHOTO DIODE
designator *?
pins: A, K

## PhotoCoupler
designator U??
footprint Photocoupler (PS2501)
pins: 1 A "Anode", 2 K "Cathode", 3 E "Emitter", 4 C "Collector"

## PICO-D4
designator U?
ESP32 Wifi Bluetooth,4MByte Flash; Manufacturer 1: Espressif Systems; Manufacturer Part Number 1: ESP32-PICO-D4; Interface: I2C,SPI,GPIO,PWM,SDIO,UART; Frequency: 2.5GHz; Data Rate: 150Mbps; Sensitivity: -98.4dBm; Memory Size: 4MB; ComponentLink1URL: https://www.espressif.com/sites/default/files/documentation/esp32-pico-d4_datasheet_en.pdf?src-supplier=Digi-Key; ComponentLink1Description: https://www.espressif.com/sites/default/files/documentation/esp32-pico-d4_datasheet_en.pdf?src-supplier=Digi-Key; Supplier 1: Digi-Key; RoHS: No; Stock 1: 1598; Pricing 1: 1=4.50000 (USD); Mount: Surface Mount; Case/Package: QFN-48; Min Operating Temperature: -40°C; Max Operating Temperature: 85°C; Supplier Part Number 1: 1904-1029-1-ND
footprint ESP32_PICO_D4_2
pins: 1 VDDA, 2 LNA_IN, 3 VDD3P3, 4 VDD3P3, 5 SENSOR_VP, 6 SENSOR_CAPP, 7 SENSOR_CAPN, 8 SENSOR_VN, 9 CHIP_PU, 10 VDET_1, 11 VDET_2, 12 32K_XP, 13 32K_XN, 14 GPIO25, 15 GPIO26, 16 GPIO27, 17 MTMS, 18 MTDI, 19 VDD3P3_RTC, 20 MTCK, 21 MTDO, 22 GPIO2, 23 GPIO0, 24 GPIO4, 25 IO16(FLASH_CS), 26 VDD_SDIO_NC, 27 IO17(FLASH_SD0), 28 (RX) SD_DATA_2/IO9, 29 (TX) SD_DATA_3/IO10, 30 SD_CMD(FLASH_SD2), 31 SD_CLK(FLASH_CLK), 32 SD_DATA_0(FLASH_SD3), 33 SD_DATA_1(FLASH_SD1), 34 GPIO5, 35 GPIO18, 36 GPIO23, 37 VDD3P3_CPU, 38 GPIO19, 39 GPIO22, 40 U0RXD (power), 41 U0TXD (power), 42 GPIO21, 43 VDDA, 44 XTAL_N_NC, 45 XTAL_P_NC, 46 VDDA, 47 CAP2_NC, 48 CAP1_NC, 49 GND (power)

## PNP BJT Transistor
designator Q??
ComponentLink1Description: Manufacturer Link; ComponentLink1URL: http://www.fairchildsemi.com/; ComponentLink2Description: Datasheet; ComponentLink2URL: http://www.fairchildsemi.com/ds/2N%2F2N3906.pdf
simulation model 2N3906 (PNP)
signal-integrity model 2N3906
pins: 1 B, 2 E, 3 C

## Potentiometer
designator R??
Sim Note: Enter the Resistance value and the set point into parameter fields.; Set Position: 0.5; Value: 1K; Published: 8-Jun-2000; LatestRevisionDate: 17-Jul-2002; LatestRevisionNote: Re-released for DXP Platform.; PackageReference: VR5; Publisher: Altium Limited; PackageDescription: Variable Resistor, Thru-Hole; 3 Leads
simulation model POT (Potentiometer)
pins: 1 TOP, 2 TAP, 3 BOT
1 alternate drawing of the same symbol

## PTS810SJK250SMTRLFS
designator S
Tactile Switch SPST-NO Top Actuated Surface Mount; MF: C&K; MP: PTS810SJK250SMTRLFS; SnapEDA_Link: https://www.snapeda.com/parts/PTS810SJK250SMTRLFS/C%26K/view-part/274682/?ref=snap; Package: None; Price: None; Availability: Unavailable; Value: *
footprint PTS810SJG250SMTRLFS
pins: 1 (io), 2 (io), 3 (io), 4 (io)

## RELAY 16A
designator Rel?
pins: 1 (power), 2 (power), 3 (power), 4 (power)
text: COIL

## Relay-SPDT
designator Rel?
Single-Pole Dual-Throw Relay; Published: 24-Mar-1999; LatestRevisionDate: 17-Jul-2002; LatestRevisionNote: Re-released for DXP Platform.; PackageReference: MODULE5B; Publisher: Altium Limited
simulation model SPDTRELAY (Spice Subcircuit)
footprint RELAY SPDT
pins: 1, 2, 3, 4, 5

## Resistor
designator R?  (value not drawn)
pins: 1, 2

## Schottky Barrier Diode(SBD)
designator D??, comment Diode 11DQ03  (value not drawn)
Schottky Diode; ComponentLink1Description: Manufacturer Link; ComponentLink1URL: http://www.irf.com/; ComponentLink2Description: Datasheet; ComponentLink2URL: http://www.irf.com/product-info/datasheets/data/11dq03.pdf
simulation model 11DQ03 (DIODE)
pins: A, K

## Schottky Dual Common Cathode_0
designator D??
pins: 1 A1, 2 A2, 3 K

## Screw Terminals 2
designator *?
pins: 1, 2

## SES5VD923-2U
designator *
Manufacturer 1: Good-Ark; Manufacturer Part Number: SES5VD923-2U; Case/Package: SOD-923
footprint SODFL1006X40N
pins: A, K

## Shunt Resistor
designator *
pins: 1, 2

## SIM800C
designator U?
Quad Band GSM/GPRS Module 850MHz/900MHz/1800MHz/1900MHz 3.4V to 4.4V 42-Pin SMD; Manufacturer Name: SIMCOM; Datasheet Link: http://www.sabreadv.com/wp-content/uploads/SIM800C_Hardware_Design_V1.00.pdf; Manufacturer Part Number: SIM800C
footprint SIM800C
pins: 1 UART1_TXD, 2 UART1_RXD, 3 UART1_RTS, 4 UART1_CTS, 5 UART1_DCD, 6 UART1_DTR, 7 UART1_RI, 8 GND, 9 MICP, 10 MICN, 11 SPKP, 12 SPKN, 13 GND, 14 SIM1_DET, 15 SIM1_DATA, 16 SIM1_CLK, 17 SIM1_RST, 18 SIM1_VDD, 19 GND, 20 BT_ANT, 21 GND, 22 UART2_TXD, 23 UART2_RXD, 24 USB_VBUS, 25 USB_DP, 26 USB_DM, 27 GND, 28 VRTC, 29 RF_SYNC, 30 GND, 31 GND, 32 GSM_ANT, 33 GND, 34 VBAT_1, 35 VBAT_2, 36 GND, 37 GND, 38 ADC, 39 PWRKEY, 40 VDD_EXT, 41 NETLIGHT, 42 STATUS

## SIM808
designator U
SIM808 GPS, GPRS/GSM RF Arduino Platform Evaluation Expansion Board; MF: Adafruit Industries; MP: SIM808; Package: None; SnapEDA_Link: https://www.snapeda.com/parts/SIM808/SIMcom%20Wireless%20solutions%20Co.%2CLtd/view-part/424834/?ref=snap; Availability: Unavailable; Price: None; Value: *
footprint XCVR_SIM808
pins: 1 GND (power), 2 GND (power), 3 GND (power), 4 VBAT (power), 5 VBAT (power), 6 VBAT (power), 7 VDD_EXT (out), 8 PWRKEY (in), 9 DTR (in), 10 RI (out), 11 DCD (out), 12 CTS (out), 13 RTS (in), 14 TXD (out), 15 RXD (in), 16 ~{RESET} (in), 17 VRTC (io), 18 GND (power), 19 MIC1P (in), 20 MIC1N (in), 21 SPK1P (out), 22 SPK1N (out), 23 ADC0 (in), 24 ADC1 (in), 25 VCHG (in), 26 USB_DP (io), 27 USB_DN (io), 28 GND (power), 29 SIM_VDD (out), 30 SIM_DATA (io), 31 SIM_CLK (out), 32 SIM_RST (out), 33 SIM_DET (in), 34 GND (power), 35 GPS_ANT (in), 36 GND (power), 37 1PPS (out), 38 SDA (io), 39 SCL (in), 40 GND (power), 41 PWM2 (out), 42 PWM1 (out), 43 GPIO19 (io), 44 GPIO17 (io), 45 PCM_SYNC (out), 46 PCM_CLK (in), 47 PCM_IN (in), 48 PCM_OUT (out), 49 STATUS (out), 50 NETLIGHT (out), 51 GND (power), 52 GND (power), 53 BT_ANT (io), 54 GND (power), 55 KBR3 (out), 56 KBR2 (out), 57 KBR1 (out), 58 KBR0 (out), 59 KBC3 (in), 60 KBC2 (in), 61 KBC1 (in), 62 KBC0 (in), 63 RFSYNC (out), 64 GND (power), 65 GND (power), 66 GSM_ANT (io), 67 GND (power), 68 GND (power)

## SM7075
designator U??
Mfr. No: SM7075-12; Value: 12V/300mA; Package: DIP8
footprint DIP-8 (DIP; 8 Leads; Row Spacing 7.62 mm; Pitch 2.54 mm)
pins: 1 GND, 2 GND, 3 NC, 4 HVDD, 5 D, 6 D, 7 D, 8 D

## SSP9193-18M5R
designator *
Manufacturer Part Number: SSP9193-18M5R; Number of Outputs: 1; Output Voltage: 1.8V; Max Input Voltage: 5.5V; Max Output Current: 500mA; Output Type: Fixed; Supplier 1: LCSC; RoHS 1: Yes; Case/Package: SOT-23-5; Number of Pins: 5; Max Operating Temperature: 85°C; Output Current: 500mA; Max Supply Voltage: 5.5V; Max Output Voltage: 1.8V; Termination: SMD/SMT; ComponentLink1URL: https://datasheet.ciiva.com/25627/0900766b810fa54f-25627509.pdf?src-supplier=RSComponents; ComponentLink1Description: https://datasheet.ciiva.com/25627/0900766b810fa54f-25627509.pdf?src-supplier=RSComponents; ComponentLink2URL: https://datasheet.ciiva.com/15113/getdatasheetpartid-147216-15113223.pdf?src-supplier=Verical; ComponentLink2Description: https://datasheet.ciiva.com/15113/getdatasheetpartid-147216-15113223.pdf?src-supplier=Verical; ComponentLink3URL: https://datasheet.ciiva.com/22687/1882649-22687462.pdf?src-supplier=Element14; ComponentLink3Description: https://datasheet.ciiva.com/22687/1882649-22687462.pdf?src-supplier=Element14; ComponentLink4URL: https://datasheet.ciiva.com/3220/lm3671-3220955.pdf?src-supplier=Avnet; ComponentLink4Description: https://datasheet.ciiva.com/3220/lm3671-3220955.pdf?src-supplier=Avnet; ComponentLink5URL: https://datasheet.ciiva.com/3220/lm3671-3220956.pdf?src-supplier=Avnet; ComponentLink5Description: https://datasheet.ciiva.com/3220/lm3671-3220956.pdf?src-supplier=Avnet; ComponentLink6URL: https://datasheet.ciiva.com/22756/1781731-22756527.pdf?src-supplier=Farnell; ComponentLink6Description: https://datasheet.ciiva.com/22756/1781731-22756527.pdf?src-supplier=Farnell; Supplier Part Number 1: C411020
pins: 1 Vin, 2 GND, 3 EN, 4 BP, 5 Vout

## SW PUSHBUTTON
designator SW?
Manufacturer Part Number: 3x4x2mm switch
footprint Micro_push
pins: 1, 2

## Switch Slide SPDT
designator SW??, comment SPDT
MP: STS121RA04; MF: TE Connectivity; Availability: Unavailable; TE_purchase_URL: https://www.te.com/usa-en/product-STS121RA04.html?te_bu=Cor&te_type=disp&te_campaign=seda_glo_cor-seda-global-disp-prtnr-fy19-seda-model-bom-cta_sma-317_1&elqCampaignId=32493; Price: None; Package: None; SnapEDA_Link: https://www.snapeda.com/parts/STS121RA04/TE%20Connectivity%20ALCOSWITCH%20Switches/view-part/?ref=snap; Value: *
footprint Slide Switch
pins: 1, 2, 3

## Test Point
designator TP?  (value not drawn)
pins: 0

## Test Point_1
designator RF_Antenna?
footprint TP Header
pins: 1 (in)

## TL431
designator U??
footprint SOT23 (SOT-23; 3 Leads; Body 3.0 x 2.6 mm Pitch 0.95mm)
pins: 1 REF (in), 2 K, 3 A

## TNY290PG
designator U*?
Mfr.: Power Integrations; PART NUMBER: TNY290PG; MOUSER NO.: 869-TNY290PG; Package/Case: DIP-8C
footprint DIP-8 (DIP; 8 Leads; Row Spacing 7.62 mm; Pitch 2.54 mm)
pins: 1 EN/UV, 2 BP/M, 3 NC, 4 D, 5 S, 6 S, 7 S, 8 S

## TPD1E1B04DPYR
designator D
TVS DIODE 3.6V 8.5V 2X1SON; Manufacturer 1: Texas Instruments; Manufacturer Part Number 1: TPD1E1B04DPYT; Interface: LVDS,USB,Ethernet; Number of Channels: 1; Capacitance: 1pF; Supplier 1: Digi-Key; RoHS: No; Category: TVS Diodes; Stock 1: 6333; Pricing 1: 1=0.72000, 10=0.63400, 25=0.59520, 100=0.43200 (USD); Min Operating Temperature: -40°C; Max Operating Temperature: 125°C; Lead Free: Lead Free; ComponentLink1URL: http://www.ti.com/lit/ds/symlink/tpd1e1b04.pdf?src-supplier=Digi-Key; ComponentLink1Description: http://www.ti.com/lit/ds/symlink/tpd1e1b04.pdf?src-supplier=Digi-Key; ComponentLink2URL: http://www.ti.com/general/docs/suppproductinfo.tsp?distId=10&amp;gotoUrl=http%3A%2F%2Fwww.ti.com%2Flit%2Fgpn%2Ftpd1e1b04&src-supplier=Digi-Key; ComponentLink2Description: http://www.ti.com/general/docs/suppproductinfo.tsp?distId=10&amp;gotoUrl=http%3A%2F%2Fwww.ti.com%2Flit%2Fgpn%2Ftpd1e1b04&src-supplier=Digi-Key
footprint DIO_TPD1E05U06DPYR
pins: 1, 2

## TPS56428DDAR
designator U?
MP: TPS56428DDAR; Package: None; Price: None; Value: *; Availability: Unavailable
footprint VREG_LM5017MR/NOPB
pins: 1 EN (io), 2 VFB (io), 3 VREG5 (io), 4 PG (io), 5 GND (power), 6 SW (io), 7 VBST (io), 8 VIN (in)

## Transformer SMPS
designator Tr??
Transformer 8-Terminal, TH, Vertical, EE Style Bobbins, EE13; Manufacturer: Würth Elektronik Midcom; Core: 150-2300; ComponentLink1Description: Manufacturer; ComponentLink1URL: www.we-online.com/midcom; Created by: kangas toby; Created Date: July 2014; ComponentLink2Description: Datasheet; ComponentLink2URL: http://katalog.we-online.de/pcd/datasheet/070-4820.pdf; Package: EE13
footprint Trans_EE13
pins: 1, 2, 3, 4, 5, 6, 7, 8
text: PRI; 5V; 3.3V

## Triac
designator T??
pins: 1 M1, 2 M2, 3 G

## TVS Diode Bidirectional
designator D?
footprint TVSSMA
pins: 1, 2

## types C  DX07S024XJ1R1100_2
designator U??
footprint type C Female (JAE_DX07S024XJ1R1100)
pins: A1 GND1, A2 SSTXP1, A3 SSTXN1, A4 VBUS1, A5 CC1, A6 DP1, A7 DN1, A8 SBU1, A9 VBUS2, A10 SSRXN2, A11 SSRXP2, A12 GND3, B1 GND2, B2 SSTXP2, B3 SSTXN2, B4 VBUS3, B5 CC2, B6 DP2, B7 DN2, B8 SBU2, B9 VBUS4, B10 SSRXN1, B11 SSRXP1, B12 GND4, G1, G2, G3, G4

## UA741CP
designator U??
SnapEDA_Link: https://www.snapeda.com/parts/UA741CP/Texas%20Instruments/view-part/50768/?ref=snap; Value: *
footprint DIP-8 (DIP; 8 Leads; Row Spacing 7.62 mm; Pitch 2.54 mm)
pins: 1 OFFSET_N1 (in), 2 IN- (in), 3 IN+ (in), 4 VCC- (power), 5 OFFSET_N2 (in), 6 OUT (out), 7 VCC+ (power)
text: O N1; O N2

## UltraSonic Sensor
designator S*?, comment HC-SR04
pins: 1 Vcc, 2  Trigger, 3 Echo, 4 GND